# Altium footprint library switches.PcbLib: 1 footprints
Each footprint in its own frame and in the unit in brackets; x right, y up, seen from the top. Pads: shape width x height; smd on the part's side, far side on the other; paste and mask are expansions set on the pad; w line width, h text height; cw(c..) or ccw(c..) is an arc to the next point about the centre after c.
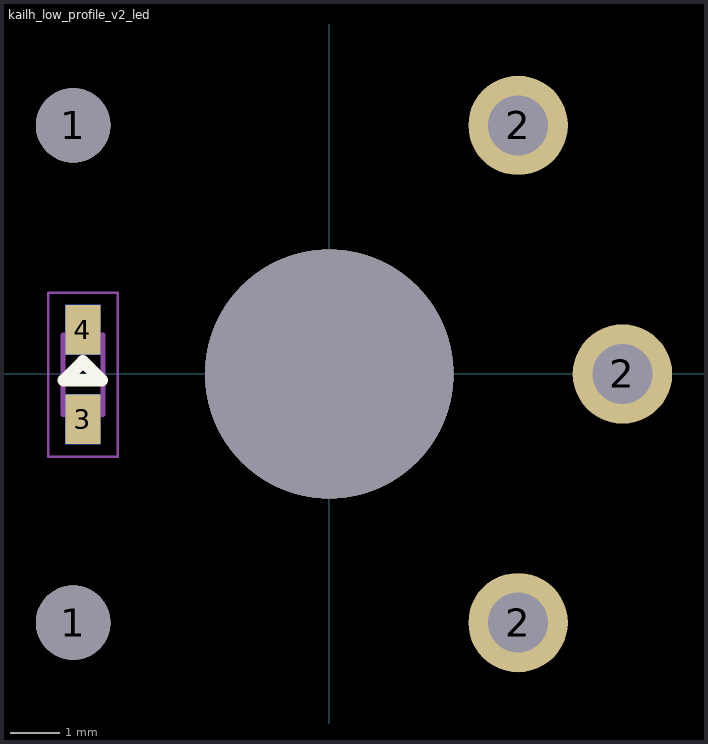
[diagram p0: the footprint, top view; thin cyan lines are the x and y axes]

## kailh_low_profile_v2_led [mm]
pads (9):
  round 1.5 hole 1.5: 1(-5.15,-5) 1(-5.15,5)
  round 2 hole 1.2: 2(3.8,-5) 2(3.8,5) 2(5.9,0)
  rect 0.7x1 smd: 3(-4.953,-0.911) 4(-4.953,0.889)
  rect 0.7x1 smd far side: 3(-4.953,-0.911) 4(-4.953,0.889)
via 0,0 diameter 5 hole 5
Top Overlay:
  lines w0.254: -5.334,-0.127 -4.953,0.254 -4.572,-0.127 -5.334,-0.127
Bottom Overlay:
  lines w0.254: -5.334,-0.127 -4.572,-0.127 -4.953,0.254 -5.334,-0.127
Mechanical 13:
  lines w0.1: -5.353,-0.461 -5.003,-0.811 ; -4.903,-0.811 -4.553,-0.461 ; -5.353,-0.811 -4.553,-0.811 ; -5.353,-0.811 -5.353,0.789 ; -5.353,-0.811 -4.553,-0.811 ; -5.353,-0.811 -5.353,0.789 ; -5.353,0.789 -4.553,0.789 ; -5.353,0.789 -4.553,0.789 ; -4.553,-0.811 -4.553,0.789 ; -4.553,-0.811 -4.553,0.789
Mechanical 15:
  lines w0.05: -5.653,-1.661 -4.253,-1.661 ; -5.653,-1.661 -5.653,1.639 ; -5.653,-1.661 -4.253,-1.661 ; -5.653,-1.661 -5.653,1.639 ; -5.653,1.639 -4.253,1.639 ; -5.653,1.639 -4.253,1.639 ; -4.253,-1.661 -4.253,1.639 ; -4.253,-1.661 -4.253,1.639
3D body "SMLD12EN1WT86.stp": height 0.55, standoff 0, extent -5.353,-0.811 -4.553,0.789
3D body "SMLD12EN1WT86.stp": height 0.55, standoff 0, extent -5.353,-0.811 -4.553,0.789
3D body "Kailh_PG1353.STEP": height 9, standoff -2.9, extent -7.5,-7.5 7.5,7.5